# Altium footprint library 691 242 510 0xx.PcbLib: 7 footprints
Each footprint in its own frame and in the unit in brackets; x right, y up, seen from the top. Pads: shape width x height; smd on the part's side, far side on the other; paste and mask are expansions set on the pad; w line width, h text height; cw(c..) or ccw(c..) is an arc to the next point about the centre after c.
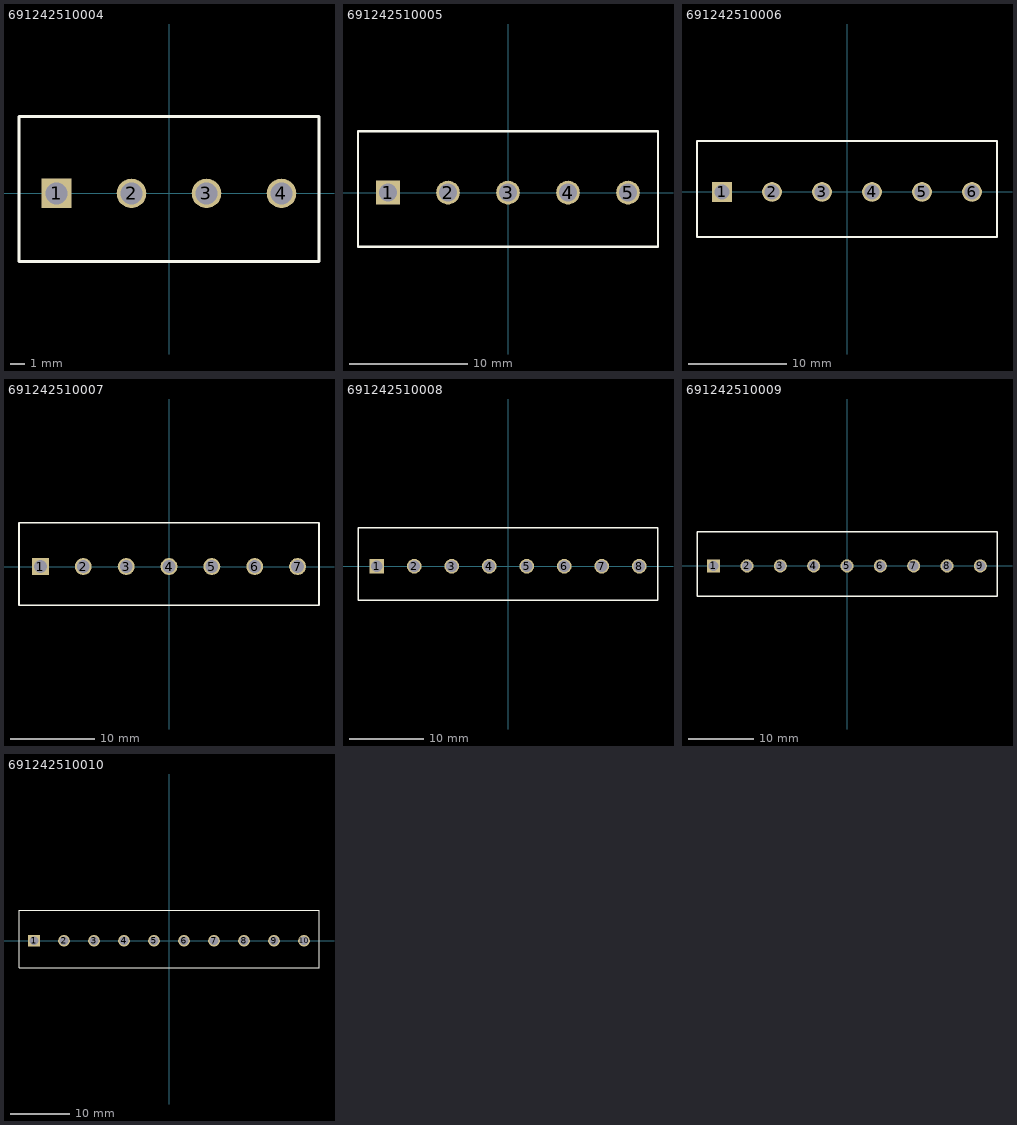
[diagram p0: the footprints below, top view; thin cyan lines are the x and y axes]

## 691242510004 [mm] "Serie 2425 - 5.08 mm _ 4 pins"
height 13.8
pads (4):
  rect 2x2 hole 1.5: 1(-7.62,0)
  round 2 hole 1.5: 2(-2.54,0) 3(2.54,0) 4(7.62,0)
Top Overlay:
  lines w0.2: -10.16,-4.6 -10.16,5.2 10.16,5.2 10.16,-4.6 -10.16,-4.6
3D body: height 13.85, standoff -3.45, extent -10.11,-4.65 10.21,5.15

## 691242510005 [mm] "Serie 2425 - 5.08 mm _ 5 pins"
height 13.8
pads (6):
  rect 2x2 hole 1.5: 1(-10.16,0)
  round 2 hole 1.5: 2(-5.08,0) 3(0,0) 4(5.08,0) 4(5.08,0) 5(10.16,0)
Top Overlay:
  lines w0.2: -12.7,-4.6 -12.7,5.2 12.7,5.2 12.7,-4.6 -12.7,-4.6
3D body: height 13.85, standoff -3.45, extent -12.7,-4.55 12.7,5.25

## 691242510006 [mm] "Serie 2425 - 5.08 mm _ 6 pins"
height 13.8
pads (7):
  rect 2x2 hole 1.5: 1(-12.7,0)
  round 2 hole 1.5: 2(-7.62,0) 3(-2.54,0) 4(2.54,0) 4(2.54,0) 5(7.62,0) 6(12.7,0)
Top Overlay:
  lines w0.2: -15.24,-4.6 15.24,-4.6 15.24,5.2 -15.24,5.2 -15.24,-4.6
3D body: height 13.85, standoff -3.45, extent -15.29,-4.55 15.19,5.25

## 691242510007 [mm] "Serie 2425 - 5.08 mm _ 7 pins"
height 13.8
pads (8):
  rect 2x2 hole 1.5: 1(-15.24,0)
  round 2 hole 1.5: 2(-10.16,0) 3(-5.08,0) 4(0,0) 4(0,0) 5(5.08,0) 6(10.16,0) 7(15.24,0)
Top Overlay:
  lines w0.2: -17.78,-4.6 17.78,-4.6 17.78,5.2 -17.78,5.2 -17.78,-4.6
3D body: height 13.85, standoff -3.45, extent -17.8,-4.55 17.76,5.25

## 691242510008 [mm] "Serie 2425 - 5.08 mm _ 8 pins"
height 13.8
pads (9):
  rect 2x2 hole 1.5: 1(-17.78,0)
  round 2 hole 1.5: 2(-12.7,0) 3(-7.62,0) 4(-2.54,0) 4(-2.54,0) 5(2.54,0) 6(7.62,0) 7(12.7,0) 8(17.78,0)
Top Overlay:
  lines w0.2: -20.32,-4.6 20.32,-4.6 20.32,5.2 -20.32,5.2 -20.32,-4.6
3D body: height 13.85, standoff -3.45, extent -20.4,-4.6 20.24,5.2

## 691242510009 [mm] "Serie 2425 - 5.08 mm _ 9 pins"
height 13.8
pads (10):
  rect 2x2 hole 1.5: 1(-20.32,0)
  round 2 hole 1.5: 2(-15.24,0) 3(-10.16,0) 4(-5.08,0) 4(-5.08,0) 5(0,0) 6(5.08,0) 7(10.16,0) 8(15.24,0) 9(20.32,0)
Top Overlay:
  lines w0.2: -22.86,-4.6 -22.86,5.2 22.86,5.2 22.86,-4.6 -22.86,-4.6
3D body: height 13.85, standoff -3.45, extent -22.8,-4.6 22.92,5.2

## 691242510010 [mm] "Serie 2425 - 5.08 mm _ 10 pins"
height 13.8
pads (11):
  rect 2x2 hole 1.5: 1(-22.86,0)
  round 2 hole 1.5: 2(-17.78,0) 3(-12.7,0) 4(-7.62,0) 4(-7.62,0) 5(-2.54,0) 6(2.54,0) 7(7.62,0) 8(12.7,0) 9(17.78,0) 10(22.86,0)
Top Overlay:
  lines w0.2: -25.4,-4.6 -25.4,5.2 25.4,5.2 25.4,-4.6 -25.4,-4.6
3D body: height 13.85, standoff -3.45, extent -25.45,-4.55 25.35,5.25